# Altium footprint library IC.PcbLib: 2 footprints
Each footprint in its own frame and in the unit in brackets; x right, y up, seen from the top. Pads: shape width x height; smd on the part's side, far side on the other; paste and mask are expansions set on the pad; w line width, h text height; cw(c..) or ccw(c..) is an arc to the next point about the centre after c.
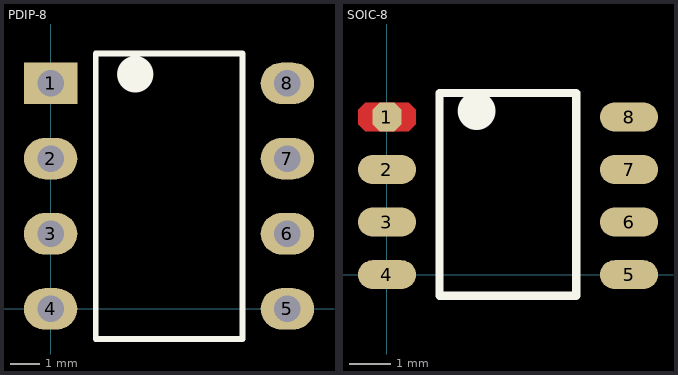
[diagram p0: the footprints below, top view; thin cyan lines are the x and y axes]

## PDIP-8 [mm]
height 4.6
pads (8):
  rect 1.8x1.4 hole 0.9: 1(0,7.62)
  oval 1.8x1.4 hole 0.9: 2(0,5.08) 3(0,2.54) 4(0,0) 5(8,0) 6(8,2.54) 7(8,5.08) 8(8,7.62)
Top Overlay:
  lines w0.2: 1.524,8.634 1.524,-1.016 6.477,-1.016 ; 1.524,8.636 6.477,8.636 6.477,-1.014
  text "●" at 2.159,7.12 h2
3D body "PDIP-8.step": height 3.21, standoff -4.14, extent -0.631,-1.09 8.505,8.71

## SOIC-8 [mm]
height 1.75
pads (8):
  oct 0.7x0.7 smd: 1(0,3.81)
  oval 1.4x0.7 smd: 2(0,2.54) 3(0,1.27) 4(0,0) 5(5.85,0) 6(5.85,1.27) 7(5.85,2.54) 8(5.85,3.81)
Top Layer:
  region: -0.525,3.46 -0.7,3.635 -0.7,3.985 -0.525,4.16 0.525,4.16 0.7,3.985 0.7,3.635 0.525,3.46
Top Overlay:
  lines w0.2: 1.27,-0.508 4.572,-0.508 4.572,4.392 1.27,4.392 1.27,-0.508
  text "●" at 1.651,3.34 h1.5
3D body "SOIC-8.step": height 1.7, standoff 0, extent -0.178,-0.508 6.02,4.318